# EAGLE library part ARDUINO_NOKIA_5110_LCD (library usevolt)
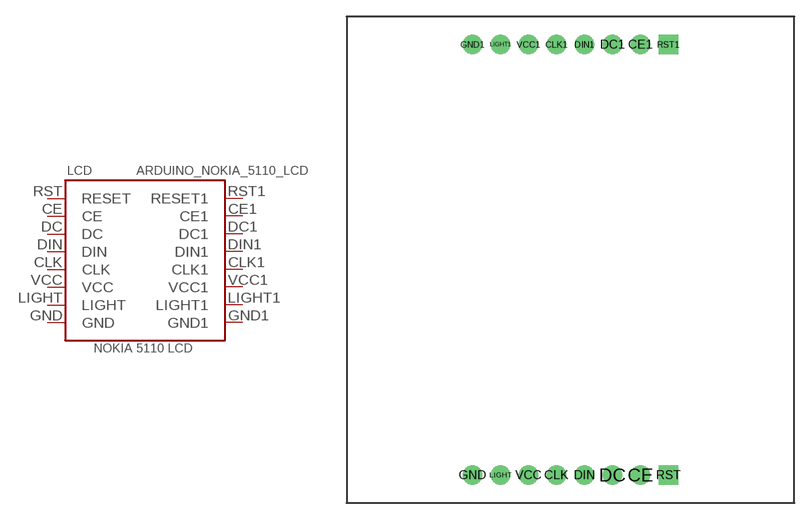
[diagram p25: symbol with the pads of ARDUINO__NOKIA_5110_DISP; footprint ARDUINO__NOKIA_5110_DISP]

Designator prefix LCD

## ARDUINO_NOKIA_5110_LCD  [ARDUINO__NOKIA_5110_DISP]
CE  CE
CE1  CE1
CLK  CLK
CLK1  CLK1
DC  DC
DC1  DC1
DIN  DIN
DIN1  DIN1
GND  GND
GND1  GND1
LIGHT  LIGHT
LIGHT1  LIGHT1
RST  RESET
RST1  RESET1
VCC  VCC
VCC1  VCC1

## Footprint ARDUINO__NOKIA_5110_DISP (pad centres in mm)
drill 1.016 pad 1.778: CE 6.35,0; CE1 6.35,39.1; CLK -1.27,0; CLK1 -1.27,39.1; DC 3.81,0; DC1 3.81,39.1; DIN 1.27,0; DIN1 1.27,39.1; GND -8.89,0; GND1 -8.89,39.1; LIGHT -6.35,0; LIGHT1 -6.35,39.1; VCC -3.81,0; VCC1 -3.81,39.1
drill 1.016 pad 1.778 square: RST 8.89,0; RST1 8.89,39.1